# Altium integrated library Linear Technology Power Management Switching Regulator LTC1174-LTC3901.IntLib: 2647 symbols (part 89 of 364)
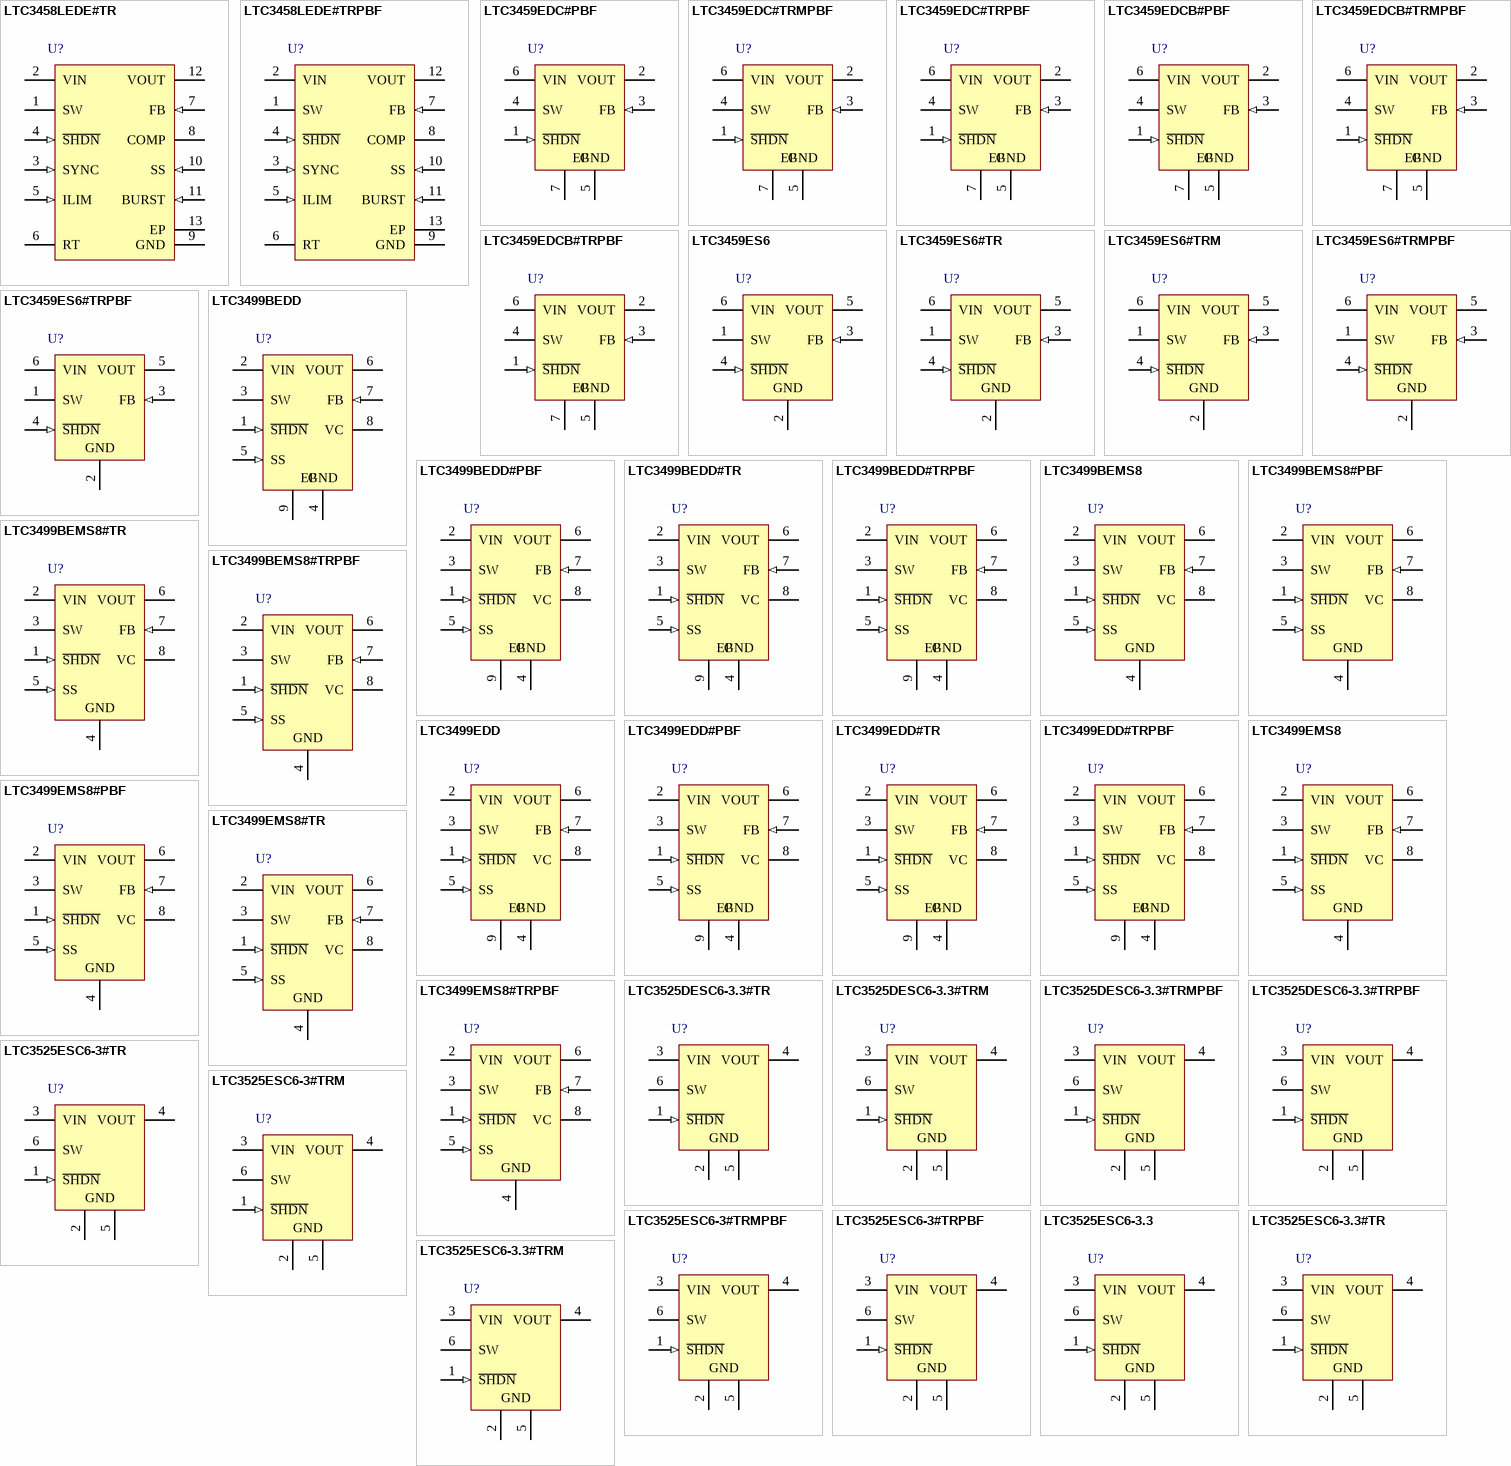
[diagram p260: symbols LTC3458LEDE#TR to LTC3525ESC6-3.3#TRM]

## LTC3459EDCB#TRMPBF
designator U?
Micropower Synchronous Boost Converter, 6-pin SON (DCB-6), -40 to 85 degC, Pb-Free, Mini Tape and Reel; Manufacturer: Linear Technology; PartNumber: LTC3459EDCB#TRMPBF; Number of Outputs: 1; DatasheetVersion: Rev. C; PackageVersion: Rev. A, 03/2011; PackageReference: DCB-6; PackageDescription: 6-Pin Plastic DFN, Body 2 x 3 mm, Pitch 0.5 mm; Supplier 1: Digi-Key; Supplier Part Number 1: LTC3459EDCB#TRMPBF-ND; Packing: Mini Tape and Reel; RoHS: TRUE; Mounting Technology: Surface Mount; Code_JEDEC: MO-229; ComponentLink1Description: Manufacturer URL; ComponentLink1URL: http://www.linear.com/; ComponentLink2Description: Datasheet; ComponentLink2URL: http://cds.linear.com/docs/en/datasheet/3459fc.pdf; ComponentLink3Description: Package Specification; ComponentLink3URL: http://www.linear.com/docs/en/packaging/(DCB6)%20DFN%2005-08-1715%20Rev%20A.pdf
footprint LT-DCB-6_V (SON, 6-Leads, Body 3x2mm, Pitch 0.5mm, Thermal Pad 1.65x1.35mm)
pins: 1 ~{SHDN} (in) "Master Shutdown Input. Driving S\H\D\N\ low disables all IC functions and reduces quiescent current from the battery to less than 1uA. This pin must be pulled above 1V to enable the IC.", 2 VOUT (power) "Regulated Output Voltage of the Boost Regulator. Bypass VOUT with a low ESR, ESL ceramic capacitor between 2.2uF and 10uF. VOUT ripple increases with smaller capacitors.", 3 FB (in) "Input to the Burst Mode Comparator. An external resistor divider connected between VOUT, GND and this pin sets the output voltage to: VOUT = 1.22(1 + R1/R2)", 4 SW "Switch Pin. Connect a 15uH to 33uH inductor between SW and VIN. Keep PCB trace lengths as short and wide as possible to reduce EMI and voltage overshoot. If the inductor current falls to zero, the internal P-channel MOSFET (See Datasheet)", 5 GND (power) "Signal and Power Ground. Provide a short, direct PCB path between GND and the (-) side of the fi lter capacitors on VIN and VOUT.", 6 VIN (power) "Input Supply Pin. Bypass VIN with a low ESR, ESL ceramic capacitor of at least 1uF.", 7 EP (power) "Ground. The Exposed Pad must be soldered to PCB."

## LTC3459EDCB#TRPBF
designator U?
Micropower Synchronous Boost Converter, 6-pin SON (DCB-6), -40 to 85 degC, Pb-Free, Tape and Reel; Manufacturer: Linear Technology; PartNumber: LTC3459EDCB#TRPBF; Number of Outputs: 1; DatasheetVersion: Rev. C; PackageVersion: Rev. A, 03/2011; PackageReference: DCB-6; PackageDescription: 6-Pin Plastic DFN, Body 2 x 3 mm, Pitch 0.5 mm; Supplier 1: Digi-Key; Supplier Part Number 1: LTC3459EDCB#TRPBF-ND; Packing: Tape and Reel; RoHS: TRUE; Mounting Technology: Surface Mount; Code_JEDEC: MO-229; ComponentLink1Description: Manufacturer URL; ComponentLink1URL: http://www.linear.com/; ComponentLink2Description: Datasheet; ComponentLink2URL: http://cds.linear.com/docs/en/datasheet/3459fc.pdf; ComponentLink3Description: Package Specification; ComponentLink3URL: http://www.linear.com/docs/en/packaging/(DCB6)%20DFN%2005-08-1715%20Rev%20A.pdf
footprint LT-DCB-6_V (SON, 6-Leads, Body 3x2mm, Pitch 0.5mm, Thermal Pad 1.65x1.35mm)
pins: 1 ~{SHDN} (in) "Master Shutdown Input. Driving S\H\D\N\ low disables all IC functions and reduces quiescent current from the battery to less than 1uA. This pin must be pulled above 1V to enable the IC.", 2 VOUT (power) "Regulated Output Voltage of the Boost Regulator. Bypass VOUT with a low ESR, ESL ceramic capacitor between 2.2uF and 10uF. VOUT ripple increases with smaller capacitors.", 3 FB (in) "Input to the Burst Mode Comparator. An external resistor divider connected between VOUT, GND and this pin sets the output voltage to: VOUT = 1.22(1 + R1/R2)", 4 SW "Switch Pin. Connect a 15uH to 33uH inductor between SW and VIN. Keep PCB trace lengths as short and wide as possible to reduce EMI and voltage overshoot. If the inductor current falls to zero, the internal P-channel MOSFET (See Datasheet)", 5 GND (power) "Signal and Power Ground. Provide a short, direct PCB path between GND and the (-) side of the fi lter capacitors on VIN and VOUT.", 6 VIN (power) "Input Supply Pin. Bypass VIN with a low ESR, ESL ceramic capacitor of at least 1uF.", 7 EP (power) "Ground. The Exposed Pad must be soldered to PCB."

## LTC3459ES6
designator U?
Micropower Synchronous Boost Converter, 6-pin SOT23 (S6-6), -40 to 85 degC; Manufacturer: Linear Technology; PartNumber: LTC3459ES6; Number of Outputs: 1; DatasheetVersion: Rev. C; PackageVersion: Jun-10; PackageReference: S6-6; PackageDescription: 6-Pin Plastic TSOT-23, Body 2.9 x 1.63 mm, Pitch 0.95 mm; RoHS: FALSE; Mounting Technology: Surface Mount; Code_JEDEC: MO-193; ComponentLink1Description: Manufacturer URL; ComponentLink1URL: http://www.linear.com/; ComponentLink2Description: Datasheet; ComponentLink2URL: http://cds.linear.com/docs/en/datasheet/3459fc.pdf; ComponentLink3Description: Package Specification; ComponentLink3URL: http://cds.linear.com/docs/en/packaging/SOT_6_05-08-1636.pdf
footprint LT-S6-6-TSOT-23_N (SOT23, 6-Leads, Body 2.9x1.75mm, Pitch 0.95mm, IPC Medium Density)
footprint LT-S6-6-TSOT-23_L (SOT23, 6-Leads, Body 2.9x1.75mm, Pitch 0.95mm, IPC High Density)
footprint LT-S6-6-TSOT-23_M (SOT23, 6-Leads, Body 2.9x1.75mm, Pitch 0.95mm, IPC Low Density)
pins: 1 SW, 2 GND (power), 3 FB (in), 4 ~{SHDN} (in), 5 VOUT (power), 6 VIN (power)

## LTC3459ES6#TR
designator U?
Micropower Synchronous Boost Converter, 6-pin SOT23 (S6-6), -40 to 85 degC, Tape and Reel; Manufacturer: Linear Technology; PartNumber: LTC3459ES6#TR; Number of Outputs: 1; DatasheetVersion: Rev. C; PackageVersion: Jun-10; PackageReference: S6-6; PackageDescription: 6-Pin Plastic TSOT-23, Body 2.9 x 1.63 mm, Pitch 0.95 mm; Supplier 1: Digi-Key; Supplier Part Number 1: LTC3459ES6#TR-ND; Packing: Tape and Reel; RoHS: FALSE; Mounting Technology: Surface Mount; Code_JEDEC: MO-193; ComponentLink1Description: Manufacturer URL; ComponentLink1URL: http://www.linear.com/; ComponentLink2Description: Datasheet; ComponentLink2URL: http://cds.linear.com/docs/en/datasheet/3459fc.pdf; ComponentLink3Description: Package Specification; ComponentLink3URL: http://cds.linear.com/docs/en/packaging/SOT_6_05-08-1636.pdf
footprint LT-S6-6-TSOT-23_N (SOT23, 6-Leads, Body 2.9x1.75mm, Pitch 0.95mm, IPC Medium Density)
footprint LT-S6-6-TSOT-23_L (SOT23, 6-Leads, Body 2.9x1.75mm, Pitch 0.95mm, IPC High Density)
footprint LT-S6-6-TSOT-23_M (SOT23, 6-Leads, Body 2.9x1.75mm, Pitch 0.95mm, IPC Low Density)
pins: 1 SW, 2 GND (power), 3 FB (in), 4 ~{SHDN} (in), 5 VOUT (power), 6 VIN (power)

## LTC3459ES6#TRM
designator U?
Micropower Synchronous Boost Converter, 6-pin SOT23 (S6-6), -40 to 85 degC, Mini Tape and Reel; Manufacturer: Linear Technology; PartNumber: LTC3459ES6#TRM; Number of Outputs: 1; DatasheetVersion: Rev. C; PackageVersion: Jun-10; PackageReference: S6-6; PackageDescription: 6-Pin Plastic TSOT-23, Body 2.9 x 1.63 mm, Pitch 0.95 mm; Supplier 1: Digi-Key; Supplier Part Number 1: LTC3459ES6#TRM-ND; Packing: Mini Tape and Reel; RoHS: FALSE; Mounting Technology: Surface Mount; Code_JEDEC: MO-193; ComponentLink1Description: Manufacturer URL; ComponentLink1URL: http://www.linear.com/; ComponentLink2Description: Datasheet; ComponentLink2URL: http://cds.linear.com/docs/en/datasheet/3459fc.pdf; ComponentLink3Description: Package Specification; ComponentLink3URL: http://cds.linear.com/docs/en/packaging/SOT_6_05-08-1636.pdf
footprint LT-S6-6-TSOT-23_N (SOT23, 6-Leads, Body 2.9x1.75mm, Pitch 0.95mm, IPC Medium Density)
footprint LT-S6-6-TSOT-23_L (SOT23, 6-Leads, Body 2.9x1.75mm, Pitch 0.95mm, IPC High Density)
footprint LT-S6-6-TSOT-23_M (SOT23, 6-Leads, Body 2.9x1.75mm, Pitch 0.95mm, IPC Low Density)
pins: 1 SW, 2 GND (power), 3 FB (in), 4 ~{SHDN} (in), 5 VOUT (power), 6 VIN (power)

## LTC3459ES6#TRMPBF
designator U?
Micropower Synchronous Boost Converter, 6-pin SOT23 (S6-6), -40 to 85 degC, Pb-Free, Mini Tape and Reel; Manufacturer: Linear Technology; PartNumber: LTC3459ES6#TRMPBF; Number of Outputs: 1; DatasheetVersion: Rev. C; PackageVersion: Jun-10; PackageReference: S6-6; PackageDescription: 6-Pin Plastic TSOT-23, Body 2.9 x 1.63 mm, Pitch 0.95 mm; Supplier 1: Digi-Key; Supplier Part Number 1: LTC3459ES6#TRMPBFTR-ND; Supplier 2: Digi-Key; Supplier Part Number 2: LTC3459ES6#TRMPBFCT-ND; Supplier 3: Digi-Key; Supplier Part Number 3: LTC3459ES6#TRMPBFDKR-ND; Supplier 4: Farnell; Supplier Part Number 4: 2102608; Supplier 5: Newark; Supplier Part Number 5: 56M7868; Packing: Mini Tape and Reel; RoHS: TRUE; Mounting Technology: Surface Mount; Code_JEDEC: MO-193; ComponentLink1Description: Manufacturer URL; ComponentLink1URL: http://www.linear.com/; ComponentLink2Description: Datasheet; ComponentLink2URL: http://cds.linear.com/docs/en/datasheet/3459fc.pdf; ComponentLink3Description: Package Specification; ComponentLink3URL: http://cds.linear.com/docs/en/packaging/SOT_6_05-08-1636.pdf
footprint LT-S6-6-TSOT-23_N (SOT23, 6-Leads, Body 2.9x1.75mm, Pitch 0.95mm, IPC Medium Density)
footprint LT-S6-6-TSOT-23_L (SOT23, 6-Leads, Body 2.9x1.75mm, Pitch 0.95mm, IPC High Density)
footprint LT-S6-6-TSOT-23_M (SOT23, 6-Leads, Body 2.9x1.75mm, Pitch 0.95mm, IPC Low Density)
pins: 1 SW, 2 GND (power), 3 FB (in), 4 ~{SHDN} (in), 5 VOUT (power), 6 VIN (power)

## LTC3459ES6#TRPBF
designator U?
Micropower Synchronous Boost Converter, 6-pin SOT23 (S6-6), -40 to 85 degC, Pb-Free, Tape and Reel; Manufacturer: Linear Technology; PartNumber: LTC3459ES6#TRPBF; Number of Outputs: 1; DatasheetVersion: Rev. C; PackageVersion: Jun-10; PackageReference: S6-6; PackageDescription: 6-Pin Plastic TSOT-23, Body 2.9 x 1.63 mm, Pitch 0.95 mm; Supplier 1: Digi-Key; Supplier Part Number 1: LTC3459ES6#TRPBF-ND; Supplier 2: Newark; Supplier Part Number 2: 56M7869; Packing: Tape and Reel; RoHS: TRUE; Mounting Technology: Surface Mount; Code_JEDEC: MO-193; ComponentLink1Description: Manufacturer URL; ComponentLink1URL: http://www.linear.com/; ComponentLink2Description: Datasheet; ComponentLink2URL: http://cds.linear.com/docs/en/datasheet/3459fc.pdf; ComponentLink3Description: Package Specification; ComponentLink3URL: http://cds.linear.com/docs/en/packaging/SOT_6_05-08-1636.pdf
footprint LT-S6-6-TSOT-23_N (SOT23, 6-Leads, Body 2.9x1.75mm, Pitch 0.95mm, IPC Medium Density)
footprint LT-S6-6-TSOT-23_L (SOT23, 6-Leads, Body 2.9x1.75mm, Pitch 0.95mm, IPC High Density)
footprint LT-S6-6-TSOT-23_M (SOT23, 6-Leads, Body 2.9x1.75mm, Pitch 0.95mm, IPC Low Density)
pins: 1 SW, 2 GND (power), 3 FB (in), 4 ~{SHDN} (in), 5 VOUT (power), 6 VIN (power)

## LTC3499BEDD
designator U?
750 mA Synchronous Step-Up DC/DC Converter with Reverse-Battery Protection, 8-pin SON (DD-8), -40 to 85 degC; Manufacturer: Linear Technology; PartNumber: LTC3499BEDD; Number of Outputs: 1; DatasheetVersion: Rev. C; PackageVersion: Jun-10; PackageReference: DD-8; PackageDescription: 8-Pin Plastic DFN, Body 3 x 3 mm, Pitch 0.5 mm; RoHS: FALSE; Mounting Technology: Surface Mount; Code_JEDEC: MO-229; ComponentLink1Description: Manufacturer URL; ComponentLink1URL: http://www.linear.com/; ComponentLink2Description: Datasheet; ComponentLink2URL: http://cds.linear.com/docs/en/datasheet/3499fc.pdf; ComponentLink3Description: Package Specification; ComponentLink3URL: http://cds.linear.com/docs/en/packaging/DFN_8_05-08-1698.pdf
footprint LT-DD-8_V (SON, 8-Leads, Body 3x3mm, Pitch 0.5mm, Thermal Pad 1.65x2.38 mm)
pins: 1 ~{SHDN} (in) "Shutdown Input for IC. Connect to a voltage greater than 1.2V to enable and a voltage less than 0.2V to disable the LTC3499/LTC3499B.", 2 VIN (power) "Input Supply Voltage. The valid operating voltage is between 1.8V to 5.5V. VIN has reverse battery protection. Since the LTC3499/LTC3499B use VIN as the main bias source, bypass with a low ESR ceramic capacitor of at least 2.(See Datasheet)", 3 SW "Switch Pin. Connect an inductor from VIN to this pin with a value between 2.2uH and 10uH. Keep PCB trace lengths as short and wide as possible to minimize EMI and voltage overshoot. If the inductor current falls to zero or (See Datasheet)", 4 GND (power) "Signal and Power Ground. The DD package exposed pad must be soldered to the PCB power ground plane for electrical connection and rated thermal performance.", 5 SS (in) "Soft-Start Input. Connect a capacitor from SS to ground to control the inrush current at start-up. An internal 3uA current source charges this pin. SS will be discharged if S\H\D\N\ is pulled low, thermal shutdown occurs or (See Datasheet)", 6 VOUT (power) "Power Supply Output. Connect a low ESR output filter capacitor from this pin to the ground plane.", 7 FB (in) "FB Input to Error Amplifier. Connect a resistor divider tap from VOUT to this pin to set the output voltage. The output voltage can be adjusted between 2V and 6V.", 8 VC "Error Amplifier Output. A frequency compensation network is connected from this pin to GND to compensate the boost converter loop. See Closing the Feedthrough Loop section for guidelines.", 9 EP (power) "Signal and Power Ground. The DD package exposed pad must be soldered to the PCB power ground plane for electrical connection and rated thermal performance."

## LTC3499BEDD#PBF
designator U?
750 mA Synchronous Step-Up DC/DC Converter with Reverse-Battery Protection, 8-pin SON (DD-8), -40 to 85 degC, Pb-Free; Manufacturer: Linear Technology; PartNumber: LTC3499BEDD#PBF; Number of Outputs: 1; DatasheetVersion: Rev. C; PackageVersion: Jun-10; PackageReference: DD-8; PackageDescription: 8-Pin Plastic DFN, Body 3 x 3 mm, Pitch 0.5 mm; Supplier 1: Digi-Key; Supplier Part Number 1: LTC3499BEDD#PBF-ND; RoHS: TRUE; Mounting Technology: Surface Mount; Code_JEDEC: MO-229; ComponentLink1Description: Manufacturer URL; ComponentLink1URL: http://www.linear.com/; ComponentLink2Description: Datasheet; ComponentLink2URL: http://cds.linear.com/docs/en/datasheet/3499fc.pdf; ComponentLink3Description: Package Specification; ComponentLink3URL: http://cds.linear.com/docs/en/packaging/DFN_8_05-08-1698.pdf
footprint LT-DD-8_V (SON, 8-Leads, Body 3x3mm, Pitch 0.5mm, Thermal Pad 1.65x2.38 mm)
pins: 1 ~{SHDN} (in) "Shutdown Input for IC. Connect to a voltage greater than 1.2V to enable and a voltage less than 0.2V to disable the LTC3499/LTC3499B.", 2 VIN (power) "Input Supply Voltage. The valid operating voltage is between 1.8V to 5.5V. VIN has reverse battery protection. Since the LTC3499/LTC3499B use VIN as the main bias source, bypass with a low ESR ceramic capacitor of at least 2.(See Datasheet)", 3 SW "Switch Pin. Connect an inductor from VIN to this pin with a value between 2.2uH and 10uH. Keep PCB trace lengths as short and wide as possible to minimize EMI and voltage overshoot. If the inductor current falls to zero or (See Datasheet)", 4 GND (power) "Signal and Power Ground. The DD package exposed pad must be soldered to the PCB power ground plane for electrical connection and rated thermal performance.", 5 SS (in) "Soft-Start Input. Connect a capacitor from SS to ground to control the inrush current at start-up. An internal 3uA current source charges this pin. SS will be discharged if S\H\D\N\ is pulled low, thermal shutdown occurs or (See Datasheet)", 6 VOUT (power) "Power Supply Output. Connect a low ESR output filter capacitor from this pin to the ground plane.", 7 FB (in) "FB Input to Error Amplifier. Connect a resistor divider tap from VOUT to this pin to set the output voltage. The output voltage can be adjusted between 2V and 6V.", 8 VC "Error Amplifier Output. A frequency compensation network is connected from this pin to GND to compensate the boost converter loop. See Closing the Feedthrough Loop section for guidelines.", 9 EP (power) "Signal and Power Ground. The DD package exposed pad must be soldered to the PCB power ground plane for electrical connection and rated thermal performance."

## LTC3499BEDD#TR
designator U?
750 mA Synchronous Step-Up DC/DC Converter with Reverse-Battery Protection, 8-pin SON (DD-8), -40 to 85 degC, Tape and Reel; Manufacturer: Linear Technology; PartNumber: LTC3499BEDD#TR; Number of Outputs: 1; DatasheetVersion: Rev. C; PackageVersion: Jun-10; PackageReference: DD-8; PackageDescription: 8-Pin Plastic DFN, Body 3 x 3 mm, Pitch 0.5 mm; Packing: Tape and Reel; RoHS: FALSE; Mounting Technology: Surface Mount; Code_JEDEC: MO-229; ComponentLink1Description: Manufacturer URL; ComponentLink1URL: http://www.linear.com/; ComponentLink2Description: Datasheet; ComponentLink2URL: http://cds.linear.com/docs/en/datasheet/3499fc.pdf; ComponentLink3Description: Package Specification; ComponentLink3URL: http://cds.linear.com/docs/en/packaging/DFN_8_05-08-1698.pdf
footprint LT-DD-8_V (SON, 8-Leads, Body 3x3mm, Pitch 0.5mm, Thermal Pad 1.65x2.38 mm)
pins: 1 ~{SHDN} (in) "Shutdown Input for IC. Connect to a voltage greater than 1.2V to enable and a voltage less than 0.2V to disable the LTC3499/LTC3499B.", 2 VIN (power) "Input Supply Voltage. The valid operating voltage is between 1.8V to 5.5V. VIN has reverse battery protection. Since the LTC3499/LTC3499B use VIN as the main bias source, bypass with a low ESR ceramic capacitor of at least 2.(See Datasheet)", 3 SW "Switch Pin. Connect an inductor from VIN to this pin with a value between 2.2uH and 10uH. Keep PCB trace lengths as short and wide as possible to minimize EMI and voltage overshoot. If the inductor current falls to zero or (See Datasheet)", 4 GND (power) "Signal and Power Ground. The DD package exposed pad must be soldered to the PCB power ground plane for electrical connection and rated thermal performance.", 5 SS (in) "Soft-Start Input. Connect a capacitor from SS to ground to control the inrush current at start-up. An internal 3uA current source charges this pin. SS will be discharged if S\H\D\N\ is pulled low, thermal shutdown occurs or (See Datasheet)", 6 VOUT (power) "Power Supply Output. Connect a low ESR output filter capacitor from this pin to the ground plane.", 7 FB (in) "FB Input to Error Amplifier. Connect a resistor divider tap from VOUT to this pin to set the output voltage. The output voltage can be adjusted between 2V and 6V.", 8 VC "Error Amplifier Output. A frequency compensation network is connected from this pin to GND to compensate the boost converter loop. See Closing the Feedthrough Loop section for guidelines.", 9 EP (power) "Signal and Power Ground. The DD package exposed pad must be soldered to the PCB power ground plane for electrical connection and rated thermal performance."